# EAGLE library part MAX6675 (library MKX-controller)
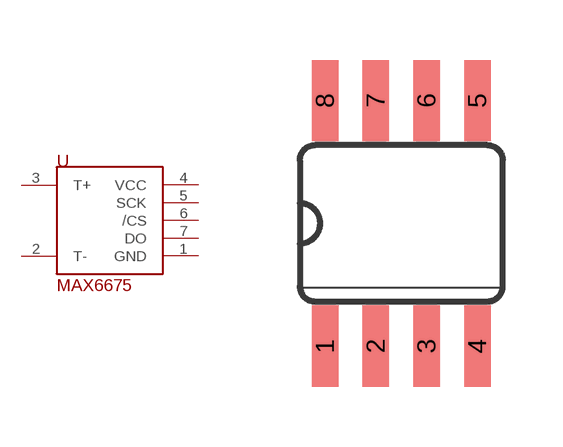
[diagram p0: symbol with the pads of SO-8; footprint SO-8]

Designator prefix U

## MAX6675  [SO-8]
1  GND
2  T-
3  T+
4  VCC
5  SCK
6  /CS
7  DO

## Footprint SO-8 (pad centres in mm)
smd 0.66 x 2.032: 1 -1.905,-3.073; 2 -0.635,-3.073; 3 0.635,-3.073; 4 1.905,-3.073; 5 1.905,3.073; 6 0.635,3.073; 7 -0.635,3.073; 8 -1.905,3.073